# EAGLE library part MCP16331 (library pol)
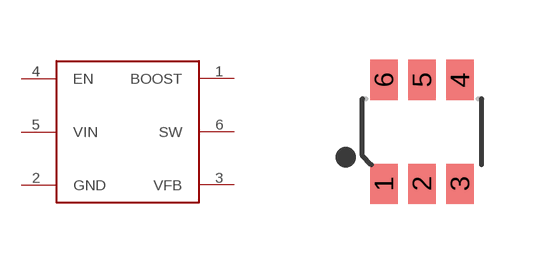
[diagram p1: symbol with the pads of SOT-23-6; footprint SOT-23-6]

Designator prefix -

## MCP16331  [SOT-23-6]
1  BOOST
2  GND
3  VFB
4  EN
5  VIN
6  SW

## Footprint SOT-23-6 (pad centres in mm)
smd 0.69 x 1: 1 -0.95,-1.3; 2 0,-1.3; 3 0.95,-1.3; 4 0.95,1.3; 5 0,1.3; 6 -0.95,1.3